# Altium schematic symbol library PCB1.SCHLIB: 29 symbols
Pins are listed as number, name and electrical type; pins without a type are passive.

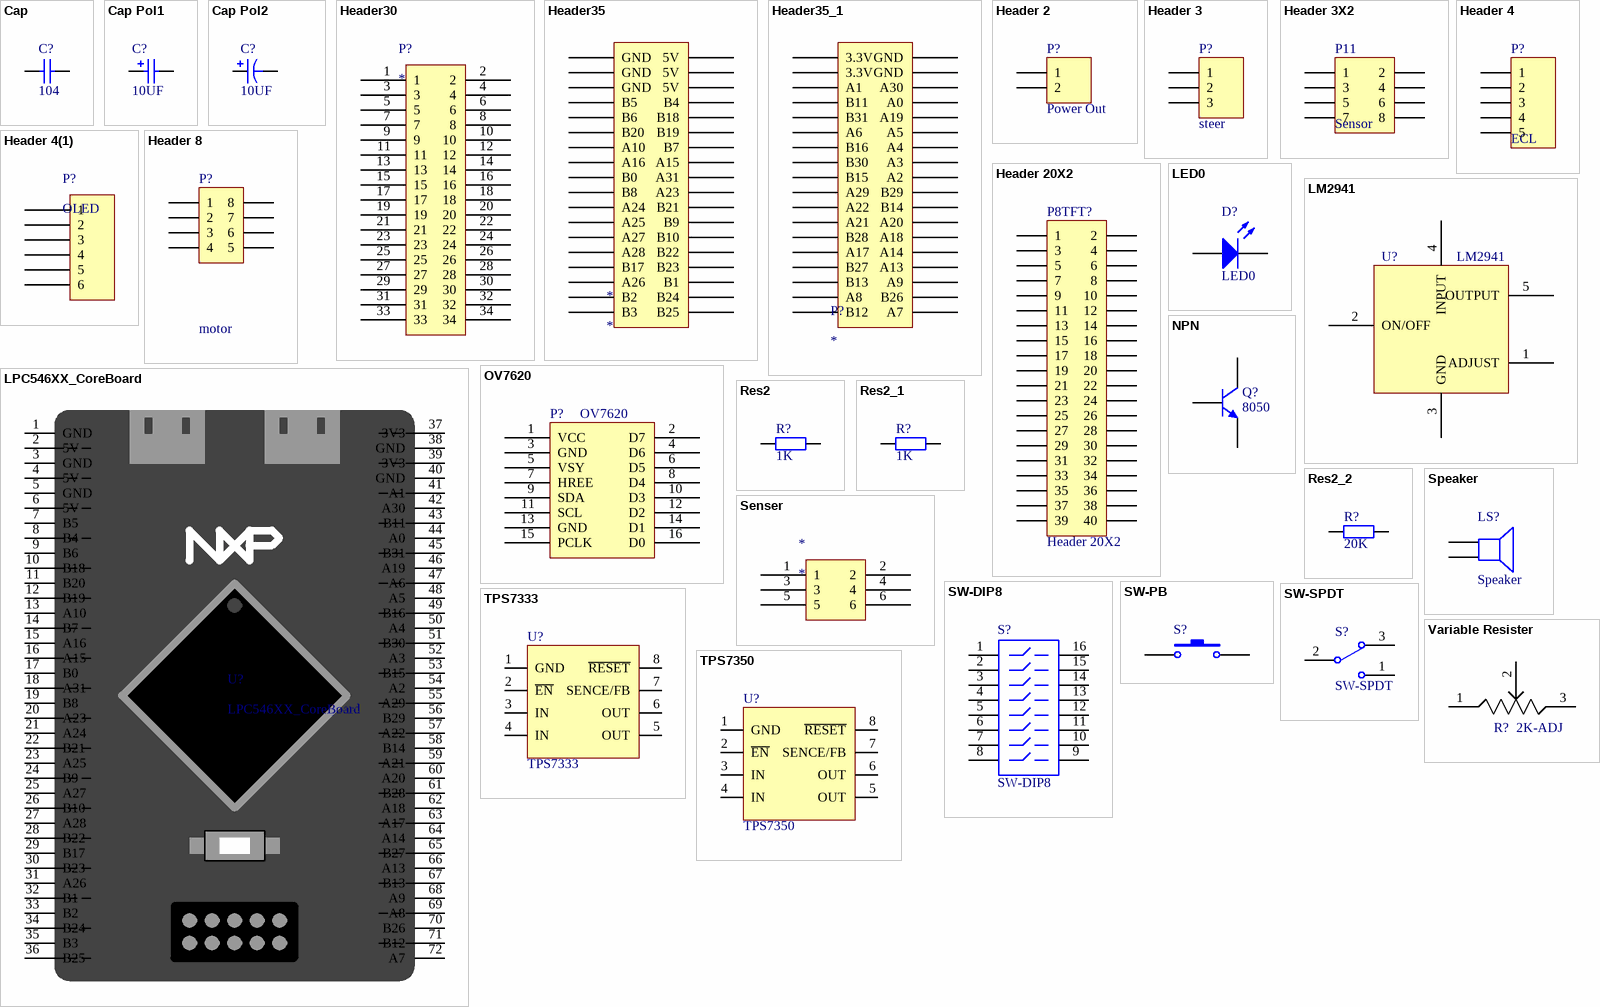
[diagram p0: symbols Cap to Variable Resister]

## Cap
designator C?  value 104  (hidden comment: Cap)
Capacitor; Published: 8-Jun-2000; LatestRevisionDate: 17-Jul-2002; LatestRevisionNote: Re-released for DXP Platform.; PackageReference: RAD-0.3; Publisher: Altium Limited; PackageDescription: Radial Cap, Thru-Hole; 2 Leads; 0.3 in Pin Spacing
footprint RAD-0.3 (Radial Cap, Thru-Hole; 2 Leads; 0.3 in Pin Spacing)
simulation model CAP (Capacitor)
signal-integrity model Cap
footprint C0603
pins: 1, 2

## Cap Pol1
designator C?  value 10UF  (hidden comment: Cap Pol1)
Polarized Capacitor (Radial); Published: 8-Jun-2000; LatestRevisionDate: 17-Jul-2002; LatestRevisionNote: Re-released for DXP Platform.; PackageReference: RB7.6-15; Publisher: Altium Limited; PackageDescription: Polarized Capacitor (Radial); 2 Leads
footprint RB7.6-15 (Polarized Capacitor (Radial); 2 Leads)
simulation model CAP (Capacitor)
signal-integrity model Cap Pol
footprint A_3216
pins: 1, 2
1 alternate drawing of the same symbol

## Cap Pol2
designator C?  value 10UF  (hidden comment: Cap Pol2)
Polarized Capacitor (Axial); Published: 8-Jun-2000; LatestRevisionDate: 17-Jul-2002; LatestRevisionNote: Re-released for DXP Platform.; PackageReference: POLAR0.8; Publisher: Altium Limited; PackageDescription: Polarized Capacitor; 2 Leads
footprint POLAR0.8 (Polarized Capacitor; 2 Leads)
simulation model CAP (Capacitor)
signal-integrity model Cap Pol
footprint 3216极性
pins: 1, 2
1 alternate drawing of the same symbol

## Header30
designator P?
pins: 1, 2, 3, 4, 5, 6, 7, 8, 9, 10, 11, 12, 13, 14, 15, 16, 17, 18, 19, 20, 21, 22, 23, 24, 25, 26, 27, 28, 29, 30, 31, 32, 33, 34

## Header35
designator *
pins: 1 GND, 2 5V, 3 GND, 4 5V, 5 GND, 6 5V, 7 B5, 8 B4, 9 B6, 10 B18, 11 B20, 12 B19, 13 A10, 14 B7, 15 A16, 16 A15, 17 B0, 18 A31, 19 B8, 20 A23, 21 A24, 22 B21, 23 A25, 24 B9, 25 A27, 26 B10, 27 A28, 28 B22, 29 B17, 30 B23, 31 A26, 32 B1, 33 B2, 34 B24, 35 B3, 36 B25

## Header35_1
designator P?
pins: 1 3.3V, 2 GND, 3 3.3V, 4 GND, 5 A1, 6 A30, 7 B11, 8 A0, 9 B31, 10 A19, 11 A6, 12 A5, 13 B16, 14 A4, 15 B30, 16 A3, 17 B15, 18 A2, 19 A29, 20 B29, 21 A22, 22 B14, 23 A21, 24 A20, 25 B28, 26 A18, 27 A17, 28 A14, 29 B27, 30 A13, 31 B13, 32 A9, 33 A8, 34 B26, 35 B12, 36 A7

## Header 2
designator P?, comment Power Out
Header, 2-Pin; LatestRevisionDate: 17-Jul-2002; LatestRevisionNote: Re-released for DXP Platform.; Publisher: Altium Limited
footprint T型插头
signal-integrity model Connector
pins: 1, 2

## Header 3
designator P?, comment steer
Header, 3-Pin; LatestRevisionDate: 17-Jul-2002; LatestRevisionNote: Re-released for DXP Platform.; Publisher: Altium Limited
footprint HDR1X3 (Connector; Header; 3 Position)
signal-integrity model Connector
pins: 1, 2, 3

## Header 3X2
designator P11, comment Sensor
Header, 3-Pin, Dual row; LatestRevisionDate: 17-Jul-2002; LatestRevisionNote: Re-released for DXP Platform.; Publisher: Altium Limited
footprint HDR2X3 (Connector; Header; 3x2 Position)
signal-integrity model Connector
pins: 1, 2, 3, 4, 5, 6, 7, 8

## Header 4
designator P?, comment ECL
Header, 4-Pin; LatestRevisionDate: 17-Jul-2002; LatestRevisionNote: Re-released for DXP Platform.; Publisher: Altium Limited
footprint HDR1X4 (Connector; Header; 4 Position)
signal-integrity model Connector
pins: 1, 2, 3, 4, 5

## Header 4(1)
designator P?, comment OLED
Header ,4-pin
pins: 1, 2, 3, 4, 5, 6

## Header 8
designator P?, comment motor
Header, 8-Pin; LatestRevisionDate: 17-Jul-2002; LatestRevisionNote: Re-released for DXP Platform.; Publisher: Altium Limited
signal-integrity model Connector
pins: 1, 2, 3, 4, 5, 6, 7, 8

## Header 20X2
designator P8TFT?
Header, 20-Pin, Dual row; LatestRevisionDate: 17-Jul-2002; LatestRevisionNote: Re-released for DXP Platform.; Publisher: Altium Limited
footprint HDR2X20 (Connector; Header; 20x2 Position)
signal-integrity model Connector
pins: 1, 2, 3, 4, 5, 6, 7, 8, 9, 10, 11, 12, 13, 14, 15, 16, 17, 18, 19, 20, 21, 22, 23, 24, 25, 26, 27, 28, 29, 30, 31, 32, 33, 34, 35, 36, 37, 38, 39, 40

## LED0
designator D?
Typical INFRARED GaAs LED; Published: 8-Jun-2000; LatestRevisionDate: 08-Jul-2005; LatestRevisionNote: Mech Layer 1 removed.; PackageReference: LED-0; Publisher: Altium Limited; PackageDescription: LED; 2 Leads
footprint 0805极性
simulation model LED0 (Diode)
pins: 1 A, 2 K

## LM2941
designator U?
footprint TO_263
pins: 1 ADJUST, 2 ON/OFF, 3 GND, 4 INPUT, 5 OUTPUT

## LPC546XX_CoreBoard
designator U?
footprint LPC546XX_CoreBoard (逐飞科技LPC核心板整体封装，可直接使用)
pins: 1 GND, 2 5V, 3 GND, 4 5V, 5 GND, 6 5V, 7 B5, 8 B4, 9 B6, 10 B18, 11 B20, 12 B19, 13 A10, 14 B7, 15 A16, 16 A15, 17 B0, 18 A31, 19 B8, 20 A23, 21 A24, 22 B21, 23 A25, 24 B9, 25 A27, 26 B10, 27 A28, 28 B22, 29 B17, 30 B23, 31 A26, 32 B1, 33 B2, 34 B24, 35 B3, 36 B25, 37 3V3, 38 GND, 39 3V3, 40 GND, 41 A1, 42 A30, 43 B11, 44 A0, 45 B31, 46 A19, 47 A6, 48 A5, 49 B16, 50 A4, 51 B30, 52 A3, 53 B15, 54 A2, 55 A29, 56 B29, 57 A22, 58 B14, 59 A21, 60 A20, 61 B28, 62 A18, 63 A17, 64 A14, 65 B27, 66 A13, 67 B13, 68 A9, 69 A8, 70 B26, 71 B12, 72 A7

## NPN
designator Q?, comment 8050
NPN Bipolar Transistor; Published: 8-Jun-2000; LatestRevisionDate: 17-Jul-2002; LatestRevisionNote: Re-released for DXP Platform.; PackageReference: TO-226; Publisher: Altium Limited; Code_JEDEC: TO-226-AA
footprint BCY_W3
simulation model NPN
signal-integrity model NPN
pins: 1 C, 2 B, 3 E

## OV7620
designator P?
footprint HDR2X9
pins: 1 VCC, 2 D7, 3 GND, 4 D6, 5 VSY, 6 D5, 7 HREE, 8 D4, 9 SDA, 10 D3, 11 SCL, 12 D2, 13 GND, 14 D1, 15 PCLK, 16 D0

## Res2
designator R?  value 1K  (hidden comment: Res2)
Resistor; Published: 8-Jun-2000; LatestRevisionDate: 17-Jul-2002; LatestRevisionNote: Re-released for DXP Platform.; PackageReference: AXIAL-0.4; Publisher: Altium Limited; PackageDescription: Axial Device, Thru-Hole; 2 Leads; 0.4 in Pin Spacing
footprint AXIAL-0.4 (Axial Device, Thru-Hole; 2 Leads; 0.4 in Pin Spacing)
simulation model RESISTOR (Resistor)
signal-integrity model Res
footprint R0603
pins: 1, 2

## Res2_1
designator R?, comment value 1K  (hidden comment: Res2)
Resistor; Published: 8-Jun-2000; LatestRevisionDate: 17-Jul-2002; LatestRevisionNote: Re-released for DXP Platform.; PackageReference: AXIAL-0.4; Publisher: Altium Limited; PackageDescription: Axial Device, Thru-Hole; 2 Leads; 0.4 in Pin Spacing
footprint AXIAL-0.4 (Axial Device, Thru-Hole; 2 Leads; 0.4 in Pin Spacing)
simulation model RESISTOR (Resistor)
signal-integrity model Res
footprint Model Name (Footprint not found)
footprint Model Name (Footprint not found)
footprint R0603
pins: 1, 2

## Res2_2
designator R?, comment value 20K  (hidden comment: Res2)
Resistor; Published: 8-Jun-2000; LatestRevisionDate: 17-Jul-2002; LatestRevisionNote: Re-released for DXP Platform.; PackageReference: AXIAL-0.4; Publisher: Altium Limited; PackageDescription: Axial Device, Thru-Hole; 2 Leads; 0.4 in Pin Spacing
footprint R0603
simulation model RESISTOR (Resistor)
signal-integrity model Res
pins: 1, 2

## Senser
designator *
pins: 1, 2, 3, 4, 5, 6

## Speaker
designator LS?
Loudspeaker; Published: 24-Mar-1999; LatestRevisionDate: 17-Jul-2002; LatestRevisionNote: Re-released for DXP Platform.; PackageReference: PIN2; Publisher: Altium Limited
footprint PIN2 (Loudspeaker; 2 Leads)
footprint SPEAKER
pins: 1, 2

## SW-DIP8
designator S?
4009 Series DIP Switch, Raised actuator; Published: 24-Mar-1999; LatestRevisionDate: 17-Dec-2003; LatestRevisionNote: PCB Footprint replaced.; PackageReference: DIP-16-KEY; Publisher: Altium Limited; PackageDescription: DIP; 16 Leads; Row Spacing 7.62 mm; Pitch 2.54 mm; ComponentLink1Description: Manufacturer Link; ComponentLink1URL: http://www.oupiin.com/prodindx.html#Headers
footprint DIP-16-KEY (DIP; 16 Leads; Row Spacing 7.62 mm; Pitch 2.54 mm)
simulation model dpsw8 (Spice Subcircuit)
pins: 1, 2, 3, 4, 5, 6, 7, 8, 9, 10, 11, 12, 13, 14, 15, 16

## SW-PB
designator S?  (value not drawn)
Switch; Published: 24-Mar-1999; LatestRevisionDate: 17-Jul-2002; LatestRevisionNote: Re-released for DXP Platform.; PackageReference: SPST-2; Publisher: Altium Limited; PackageDescription: Switch; 2 Leads
footprint SPST-2 (Switch; 2 Leads)
pins: 1, 2

## SW-SPDT
designator S?
SPDT Subminiature Toggle Switch, Right Angle Mounting, Vertical Actuation; Published: 24-Mar-1999; LatestRevisionDate: 17-Dec-2003; LatestRevisionNote: Schematic revised, PCB Footprint replaced.; DatasheetVersion: 05-Dec-2000; PackageReference: TL36WW15050; Publisher: Altium Limited; PackageDescription: Switch; 4 Leads; ComponentLink1Description: Manufacturer Link; ComponentLink1URL: http://www.apem.com
footprint TL36WW15050 (Switch; 4 Leads)
footprint SWITCH_BIG
pins: 1, 2, 3

## TPS7333
designator U?
footprint SOP_8
pins: 1 GND, 2 ~{EN}, 3 IN, 4 IN, 5 OUT, 6 OUT, 7 SENCE/FB, 8 ~{RESET}

## TPS7350
designator U?
footprint SOP_8
pins: 1 GND, 2 ~{EN}, 3 IN, 4 IN, 5 OUT, 6 OUT, 7 SENCE/FB, 8 ~{RESET}

## Variable Resister
designator R?, comment 2K-ADJ
footprint RESISTER_ADJ
pins: 1, 2, 3